# EAGLE library part 114-00841-68 (library badge)
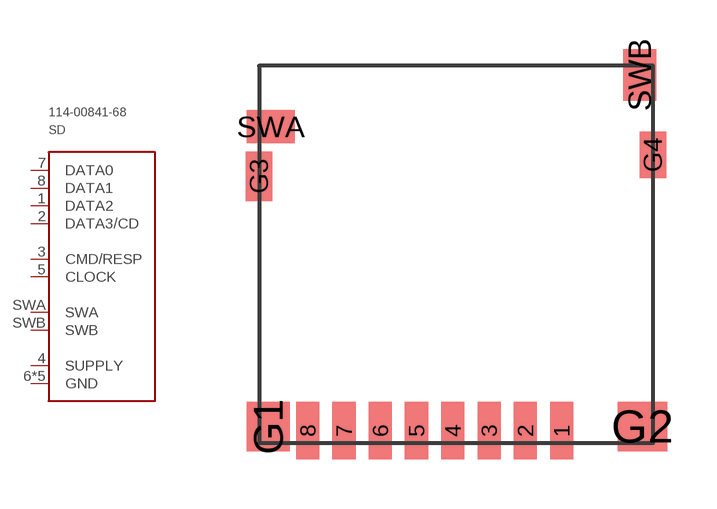
[diagram p1: symbol with the pads of 114-00841-68; footprint 114-00841-68]

Designator prefix SD

## 114-00841-68  [114-00841-68]
1  DATA2
2  DATA3/CD
3  CMD/RESP
4  SUPPLY
5  CLOCK
6  GND
7  DATA0
8  DATA1
G1  GND
G2  GND
G3  GND
G4  GND
SWA  SWA
SWB  SWB

## Footprint 114-00841-68 (pad centres in mm)
smd 0.7 x 1.75: 1 3.2,0.875; 2 2.1,0.875; 3 1,0.875; 4 -0.1,0.875; 5 -1.2,0.875; 6 -2.3,0.875; 7 -3.4,0.875; 8 -4.5,0.875
smd 1.3 x 1.5: G1 -5.7,1
smd 1.5 x 1.5: G2 5.65,1
smd 0.8 x 1.5: G3 -5.975,8.6
smd 0.8 x 1.4: G4 5.975,9.25
smd 1.45 x 1: SWA -5.625,10.1
smd 1 x 1.55: SWB 5.575,11.675